# EAGLE library part MD17A (library POVPARTS)
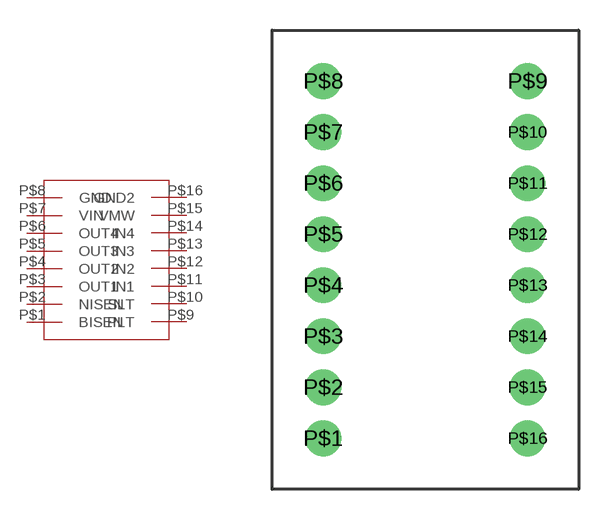
[diagram p2: symbol with the pads of MD17A; footprint MD17A]

Designator prefix -

## MD17A  [MD17A]
P$1  BISEN
P$2  NISEN
P$3  OUT1
P$4  OUT2
P$5  OUT3
P$6  OUT4
P$7  VIN
P$8  GND
P$9  PLT
P$10  SLT
P$11  IN1
P$12  IN2
P$13  IN3
P$14  IN4
P$15  VMW
P$16  GND2

## Footprint MD17A (pad centres in mm)
drill 0.9 pad 1.778: P$1 2.54,2.54; P$2 2.54,5.08; P$3 2.54,7.62; P$4 2.54,10.16; P$5 2.54,12.7; P$6 2.54,15.24; P$7 2.54,17.78; P$8 2.54,20.32; P$9 12.7,20.32; P$10 12.7,17.78; P$11 12.7,15.24; P$12 12.7,12.7; P$13 12.7,10.16; P$14 12.7,7.62; P$15 12.7,5.08; P$16 12.7,2.54